# EAGLE library part AD5761 (library FM_transmitter)
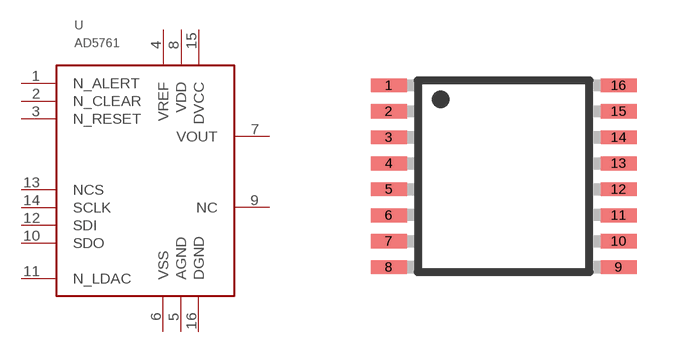
[diagram p10: symbol with the pads of TSSOP-16; footprint TSSOP-16]

Designator prefix -

## AD5761  [TSSOP-16]
1  N_ALERT
2  N_CLEAR
3  N_RESET
4  VREF
5  AGND
6  VSS
7  VOUT
8  VDD
9  NC
10  SDO
11  N_LDAC
12  SDI
13  NCS
14  SCLK
15  DVCC
16  DGND

## Footprint TSSOP-16 (pad centres in mm)
smd 0.9 x 0.35: 1 -2.875,2.275; 2 -2.875,1.625; 3 -2.875,0.975; 4 -2.875,0.325; 5 -2.875,-0.325; 6 -2.875,-0.975; 7 -2.875,-1.625; 8 -2.875,-2.275; 9 2.875,-2.275; 10 2.875,-1.625; 11 2.875,-0.975; 12 2.875,-0.325; 13 2.875,0.325; 14 2.875,0.975; 15 2.875,1.625; 16 2.875,2.275